# Altium schematic symbol library MX25R3235FM1IL0.SchLib: 1 symbol
Pins are listed as number, name and electrical type; pins without a type are passive.

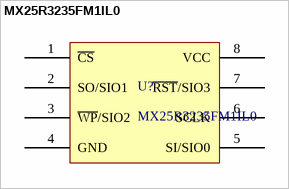
[diagram p0: symbol MX25R3235FM1IL0]

## MX25R3235FM1IL0
designator U?
Macronix 32 Mbit SPI Flash memory
footprint SOP127P600X175-8N (SOP, 8-Leads, Body 4.90x3.90mm, Pitch 1.27mm, IPC Medium Density)
pins: 1 ~{CS}, 2 SO/SIO1, 3 ~{WP}/SIO2, 4 GND, 5 SI/SIO0, 6 SCLK, 7 ~{RST}/SIO3, 8 VCC